# Altium schematic symbol library Components - 23.10.24 - 13.00.SchLib: 1 symbol
Pins are listed as number, name and electrical type; pins without a type are passive.

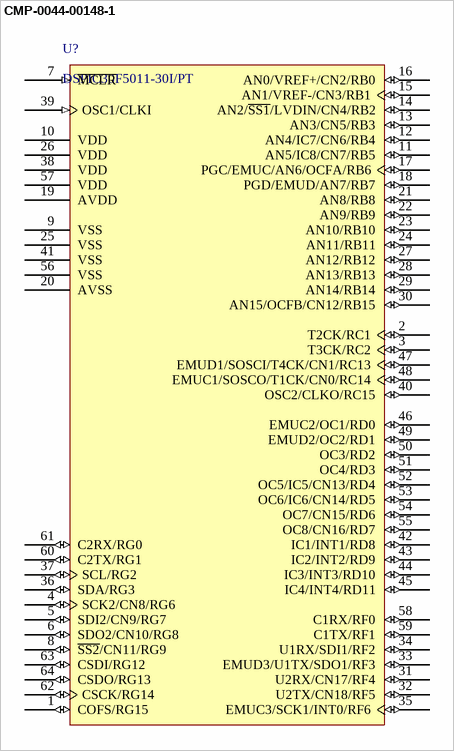
[diagram p0: symbol CMP-0044-00148-1]

## CMP-0044-00148-1
designator U?, comment DSPIC30F5011-30I/PT
High-Performance 16-bit Digital Signal Controller, 66 KB Flash, 4 KB SRAM, 1 KB EEPROM, 64-Pin TQFP, Industrial Temperature; PackageDescription: 64-Lead Thin Plastic Quad Flat Pack (PT) - 10x10x1mm Body, 2.00mm [TQFP]; PackageReference: TQFP-PT64; PackageVersion: revBB, Aug-2009; DatasheetVersion: revH, Jun-2008; Code_JEDEC: MS-026
footprint TQFP-PT64_M (Thin QFP, 64-Leads, Body 10x10mm, Pitch 0.5mm, IPC Low Density)
footprint TQFP-PT64_N (Thin QFP, 64-Leads, Body 10x10mm, Pitch 0.5mm, IPC Medium Density)
footprint TQFP-PT64_L (Thin QFP, 64-Leads, Body 10x10mm, Pitch 0.5mm, IPC High Density)
pins: 1 COFS/RG15 (io), 2 T2CK/RC1 (io), 3 T3CK/RC2 (io), 4 SCK2/CN8/RG6 (io), 5 SDI2/CN9/RG7 (io), 6 SDO2/CN10/RG8 (io), 7 ~{MCLR} (in), 8 ~{SS2}/CN11/RG9 (io), 9 VSS (power), 10 VDD (power), 11 AN5/IC8/CN7/RB5 (io), 12 AN4/IC7/CN6/RB4 (io), 13 AN3/CN5/RB3 (io), 14 AN2/~{SS1}/LVDIN/CN4/RB2 (io), 15 AN1/VREF-/CN3/RB1 (io), 16 AN0/VREF+/CN2/RB0 (io), 17 PGC/EMUC/AN6/OCFA/RB6 (io), 18 PGD/EMUD/AN7/RB7 (io), 19 AVDD (power), 20 AVSS (power), 21 AN8/RB8 (io), 22 AN9/RB9 (io), 23 AN10/RB10 (io), 24 AN11/RB11 (io), 25 VSS (power), 26 VDD (power), 27 AN12/RB12 (io), 28 AN13/RB13 (io), 29 AN14/RB14 (io), 30 AN15/OCFB/CN12/RB15 (io), 31 U2RX/CN17/RF4 (io), 32 U2TX/CN18/RF5 (io), 33 EMUD3/U1TX/SDO1/RF3 (io), 34 U1RX/SDI1/RF2 (io), 35 EMUC3/SCK1/INT0/RF6 (io), 36 SDA/RG3 (io), 37 SCL/RG2 (io), 38 VDD (power), 39 OSC1/CLKI (in), 40 OSC2/CLKO/RC15 (io), 41 VSS (power), 42 IC1/INT1/RD8 (io), 43 IC2/INT2/RD9 (io), 44 IC3/INT3/RD10 (io), 45 IC4/INT4/RD11 (io), 46 EMUC2/OC1/RD0 (io), 47 EMUD1/SOSCI/T4CK/CN1/RC13 (io), 48 EMUC1/SOSCO/T1CK/CN0/RC14 (io), 49 EMUD2/OC2/RD1 (io), 50 OC3/RD2 (io), 51 OC4/RD3 (io), 52 OC5/IC5/CN13/RD4 (io), 53 OC6/IC6/CN14/RD5 (io), 54 OC7/CN15/RD6 (io), 55 OC8/CN16/RD7 (io), 56 VSS (power), 57 VDD (power), 58 C1RX/RF0 (io), 59 C1TX/RF1 (io), 60 C2TX/RG1 (io), 61 C2RX/RG0 (io), 62 CSCK/RG14 (io), 63 CSDI/RG12 (io), 64 CSDO/RG13 (io)